# Altium schematic symbol library SCH - CONNECTORS - 2X10 PIN.SCHLIB: 2 symbols
Pins are listed as number, name and electrical type; pins without a type are passive.

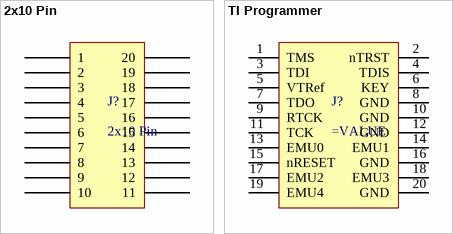
[diagram p0: symbols 2x10 Pin to TI Programmer]

## 2x10 Pin
designator J?
pins: 1, 2, 3, 4, 5, 6, 7, 8, 9, 10, 11, 12, 13, 14, 15, 16, 17, 18, 19, 20

## TI Programmer
designator J?
pins: 1 TMS, 2 nTRST, 3 TDI, 4 TDIS, 5 VTRef, 6 KEY, 7 TDO, 8 GND, 9 RTCK, 10 GND, 11 TCK, 12 GND, 13 EMU0, 14 EMU1, 15 nRESET, 16 GND, 17 EMU2, 18 EMU3, 19 EMU4, 20 GND